# EAGLE library part S14B-EH (library con-JST EH)
JST EH series header 2.50mm pitch disconnectable crimp style connectors, horizontal (side entry type), 14 pins
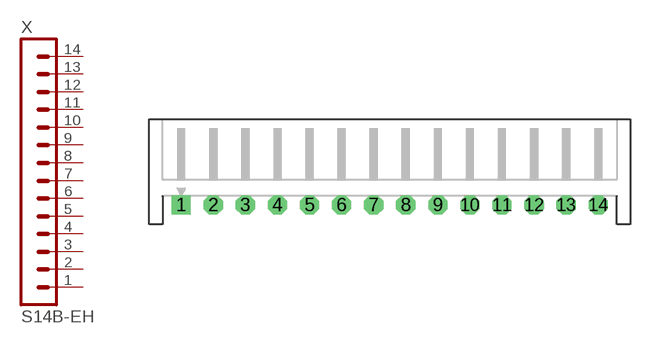
[diagram p18: symbol with the pads of S14B-EH; footprint S14B-EH]

Designator prefix X

## S14B-EH  [S14B-EH]
1  1  pas
2  2  pas
3  3  pas
4  4  pas
5  5  pas
6  6  pas
7  7  pas
8  8  pas
9  9  pas
10  10  pas
11  11  pas
12  12  pas
13  13  pas
14  14  pas

## Footprint S14B-EH (pad centres in mm)
JST EH series header 2.50mm pitch disconnectable crimp style connectors, horizontal (side entry type), 14 pins
drill 0.9 pad 1.5 square: 1 -16.25,0
drill 0.9 pad 1.5 octagon: 2 -13.75,0; 3 -11.25,0; 4 -8.75,0; 5 -6.25,0; 6 -3.75,0; 7 -1.25,0; 8 1.25,0; 9 3.75,0; 10 6.25,0; 11 8.75,0; 12 11.25,0; 13 13.75,0; 14 16.25,0